# Altium schematic symbol library CMI-1275C-050.SchLib: 1 symbol
Pins are listed as number, name and electrical type; pins without a type are passive.

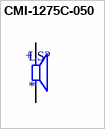
[diagram p0: symbol CMI-1275C-050]

## CMI-1275C-050
designator LS?
12 mm, 5 Vdc, 90 dB, 3.1 kHz, Through Hole, Magnetic Audio Indicator Buzzer; MF: Same Sky; MP: CMI-1275C-050; SnapEDA_Link: https://www.snapeda.com/parts/CMI-1275C-050/Same+Sky/view-part/?ref=snap; Package: None; Value: *; Check_prices: https://www.snapeda.com/parts/CMI-1275C-050/Same+Sky/view-part/?ref=eda
footprint CUI_CMI-1275C-050
pins: N, P
text: +